# Altium schematic symbol library CY7C68013A-56LTXC.SCHLIB: 1 symbol
Pins are listed as number, name and electrical type; pins without a type are passive.

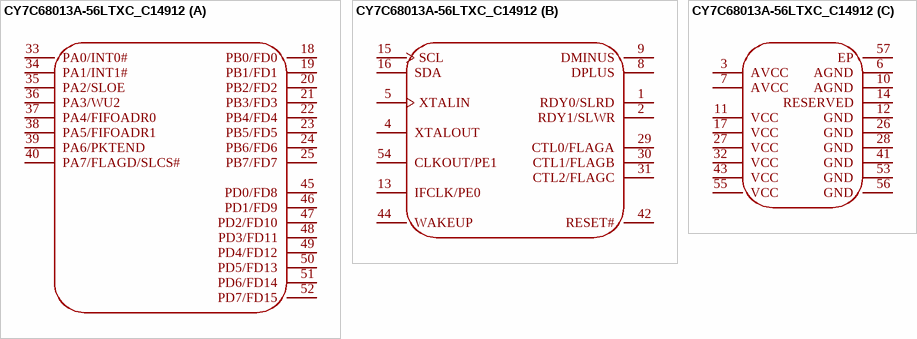
[diagram p0: symbol CY7C68013A-56LTXC_C14912]

## CY7C68013A-56LTXC_C14912
designator U??, comment CY7C68013A-56LTXC  (value not drawn)
Manufacturer: Infineon/CYPRESS(赛普拉斯); Device: CY7C68013A-56LTXC_C14912; Add into BOM: yes; Symbol: CY7C68013A-56LTXC; LCSC Part Name: CY7C68013A-56LTXC; Supplier Part: C14912; Manufacturer Part: CY7C68013A-56LTXC; Supplier Footprint: QFN-56-EP(8x8); JLCPCB Part Class: Extended Part; Datasheet: https://atta.szlcsc.com/upload/public/pdf/source/20130711/1457706622910.pdf; Supplier: LCSC; Convert to PCB: yes
footprint QFN-56_L8.0-W8.0-P0.50-BL-EP6.1
3D model QFN-56_L8.0-W8.0-P0.50-BL-EP6.1
part A pins: 18 PB0/FD0, 19 PB1/FD1, 20 PB2/FD2, 21 PB3/FD3, 22 PB4/FD4, 23 PB5/FD5, 24 PB6/FD6, 25 PB7/FD7, 33 PA0/INT0#, 34 PA1/INT1#, 35 PA2/SLOE, 36 PA3/WU2, 37 PA4/FIFOADR0, 38 PA5/FIFOADR1, 39 PA6/PKTEND, 40 PA7/FLAGD/SLCS#, 45 PD0/FD8, 46 PD1/FD9, 47 PD2/FD10, 48 PD3/FD11, 49 PD4/FD12, 50 PD5/FD13, 51 PD6/FD14, 52 PD7/FD15
part B pins: 1 RDY0/SLRD, 2 RDY1/SLWR, 4 XTALOUT, 5 XTALIN, 8 DPLUS, 9 DMINUS, 13 IFCLK/PE0, 15 SCL, 16 SDA, 29 CTL0/FLAGA, 30 CTL1/FLAGB, 31 CTL2/FLAGC, 42 RESET#, 44 WAKEUP, 54 CLKOUT/PE1
part C pins: 3 AVCC, 6 AGND, 7 AVCC, 10 AGND, 11 VCC, 12 GND, 14 RESERVED, 17 VCC, 26 GND, 27 VCC, 28 GND, 32 VCC, 41 GND, 43 VCC, 53 GND, 55 VCC, 56 GND, 57 EP